# EAGLE library part 74099-1008 (library EXCISS)
74099-1008 SL Wire-to-Board Header, Surface Mount, Single Row, Vertical, 3.05mm Pocket, Shrouded, 8 Circuits, 0.38µm Gold (Au) Selective Plating Links Datasheet <http://www.molex.com/pdm_docs/sd/740991008_sd.pdf> Product website <http://www.molex.com/molex/products/datasheet.jsp?part=active/0740991008_PCB_HEADERS.xml>
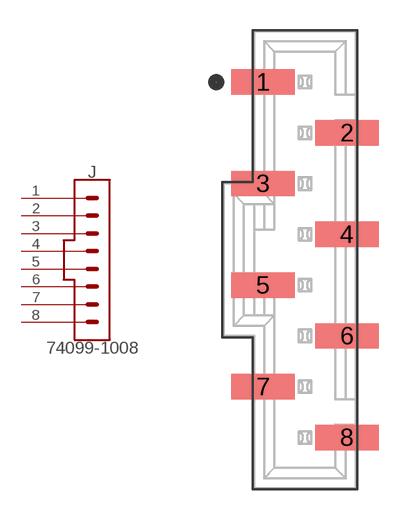
[diagram p26: symbol with the pads of MOLEX_74099-1008; footprint MOLEX_74099-1008]

Designator prefix J

## 74099-1008 (OC_MOUSER: 538-74099-1005)  [MOLEX_74099-1008]
1  1  pas
2  2  pas
3  3  pas
4  4  pas
5  5  pas
6  6  pas
7  7  pas
8  8  pas

## Footprint MOLEX_74099-1008 (pad centres in mm)
smd 3.175 x 1.27: 1 -2.095,0; 2 2.095,-2.54; 3 -2.095,-5.08; 4 2.095,-7.62; 5 -2.095,-10.16; 6 2.095,-12.7; 7 -2.095,-15.24; 8 2.095,-17.78